# Altium schematic symbol library ECS-LVDS25-1250-A.SchLib: 1 symbol
Pins are listed as number, name and electrical type; pins without a type are passive.

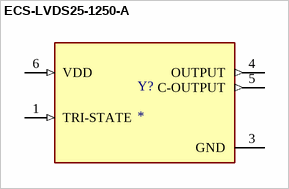
[diagram p0: symbol ECS-LVDS25-1250-A]

## ECS-LVDS25-1250-A
designator Y?
Low Voltage Differential Signaling SMD LVDS oscillators.; MP: ECS-LVDS25-1250-A; MF: {'manufacturer': u'ECS Inc.'}; Availability: Unavailable; Value: *; Price: None; Package: None
footprint OSC_ECS-LVDS25-1250-A
pins: 1 TRI-STATE (in), 3 GND (power), 4 OUTPUT (out), 5 C-OUTPUT (out), 6 VDD (in)